# Altium footprint library LED.PcbLib: 1 footprints
Each footprint in its own frame and in the unit in brackets; x right, y up, seen from the top. Pads: shape width x height; smd on the part's side, far side on the other; paste and mask are expansions set on the pad; w line width, h text height; cw(c..) or ccw(c..) is an arc to the next point about the centre after c.
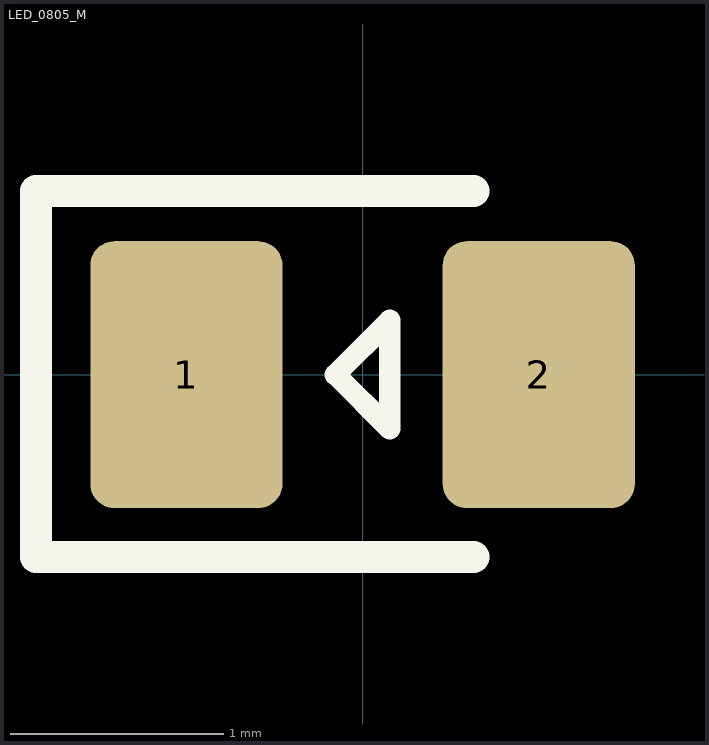
[diagram p0: the footprint, top view; thin cyan lines are the x and y axes]

## LED_0805_M [mm] "LED_0805_M"
pads (2):
  rrect25% 0.9x1.25 smd: 1(-0.825,0) 2(0.825,0)
Top Overlay:
  lines w0.1: -0.127,0 0.127,0.254 0.127,-0.254 -0.127,0
  lines w0.15: 0.519,-0.853 -1.53,-0.853 -1.53,0.859 0.519,0.859
3D body "LED 0805.STEP": height 0.7, standoff 0, extent -1,-0.625 1,0.625